# EAGLE library part TRAFO-BLOCK-RT30 (library 1A-meinLib)
Ringkern-Sicherheits- und Trenntransformator, 230V, 30VA, 86%, 2 x Sekundärspannung, 0.44kg, BLOCK
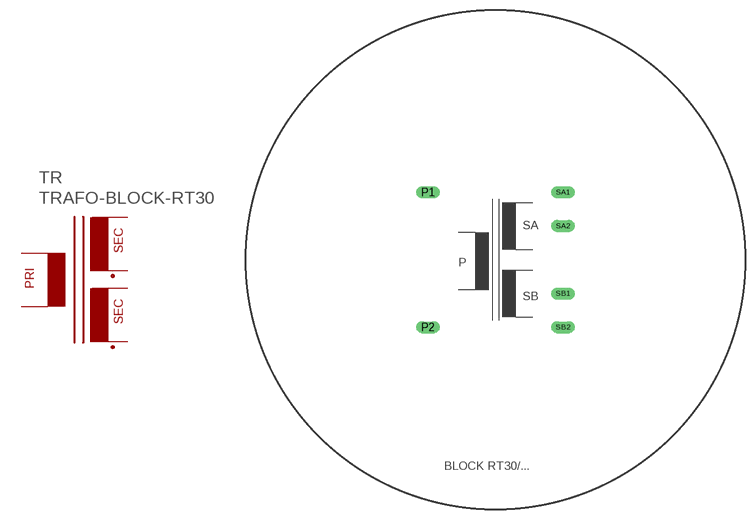
[diagram p316: symbol with the pads of TRAFO-BLOCK-RT30; footprint TRAFO-BLOCK-RT30]

Designator prefix TR

## TRAFO-BLOCK-RT30  [TRAFO-BLOCK-RT30]
P1  PA  pas
P2  PB  pas
SA1  S1A  pas
SA2  S1B  pas
SB1  S2A  pas
SB2  S2B  pas

## Footprint TRAFO-BLOCK-RT30 (pad centres in mm)
Ringkern-Sicherheits- und Trenntransformator, 230V, 30VA, 86%, 2 x Sekundärspannung, 0.44kg, BLOCK
drill 1.2 long: P1 -10,10; P2 -10,-10; SA1 10,10; SA2 10,5; SB1 10,-5; SB2 10,-10